# Altium schematic symbol library MyFirstSchlib.SchLib: 1 symbol
Pins are listed as number, name and electrical type; pins without a type are passive.

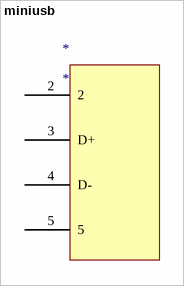
[diagram p0: symbol miniusb]

## miniusb
designator *
pins: 2, 3 D+, 4 D-, 5